# Altium schematic symbol library 分立器件.SchLib: 102 symbols
Pins are listed as number, name and electrical type; pins without a type are passive.

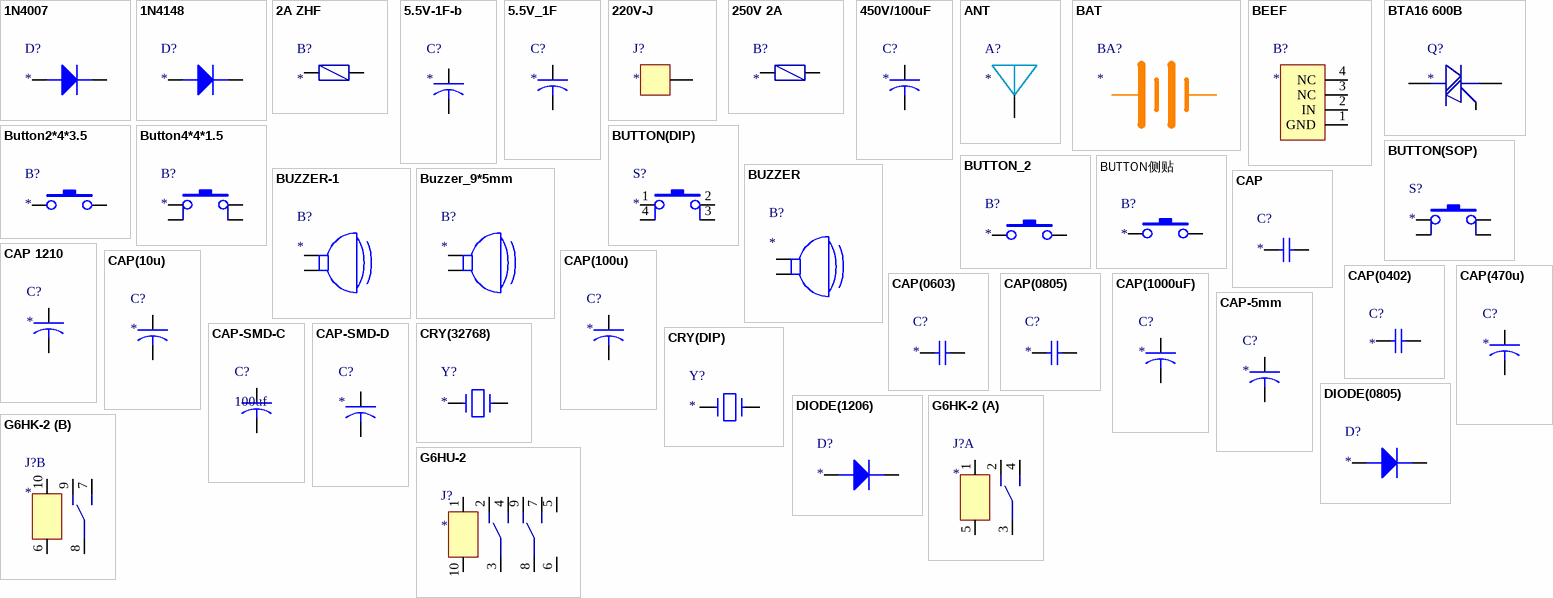
[diagram p0: symbols 1N4007 to G6HU-2]

## 1N4007
designator D?
footprint DIODE(SMA)
pins: 1 A, 2 K

## 1N4148
designator D?
footprint Diode-1206
pins: 1, 2

## 2A ZHF
designator B?
footprint 2A ZHF
pins: 1, 2

## 5.5V-1F-b
designator C?
footprint 5.5V-1F-b
pins: 1, 2

## 5.5V_1F
designator C?
footprint 5.5V_1F
pins: 1, 2

## 220V-J
designator J?
footprint 220V-J
pins: 1

## 250V 2A
designator B?
footprint 250V 2A
pins: 1, 2

## 450V/100uF
designator C?
footprint 450V/100uF
pins: 1, 2

## ANT
designator A?
footprint ANT
pins: 1 ANT

## BAT
designator BA?
footprint BAT
footprint BAT_N
pins: 1, 2 50

## BEEF
designator B?
footprint BEEF
pins: 1 GND, 2 IN, 3 NC, 4 NC

## BTA16 600B
designator Q?
footprint BTA16
pins: 1 A1, 2 A2, 3 G

## Button2*4*3.5
designator B?
footprint Button2*4*3.5
pins: 1, 2

## Button4*4*1.5
designator B?
footprint 4*4*1.5Button
pins: 1, 2, 3, 4

## BUTTON(DIP)
designator S?
pins: 1, 2, 3, 4

## BUTTON(SOP)
designator S?
footprint BUTTOP(SOP)
pins: 1, 2, 3, 4

## BUTTON_2
designator B?
footprint BUTTON_2
pins: 1, 2

## BUTTON侧贴
designator B?
footprint Model Name (Footprint not found)
footprint BUTTON侧贴
pins: 1, 2

## BUZZER
designator B?
footprint BUZZER
pins: 1, 2

## BUZZER-1
designator B?
footprint BUZZER-1
pins: 1, 2

## Buzzer_9*5mm
designator B?
footprint Buzzer_9*5mm
pins: 1, 2

## CAP
designator C?
pins: 1, 2

## CAP 1210
designator C?
footprint CAP 1210
pins: 1, 2

## CAP(10u)
designator C?
footprint CAP(10u)
pins: 1, 2

## CAP(100u)
designator C?
footprint CAP(100u)
pins: 1, 2

## CAP(0402)
designator C?
footprint C(0402)
pins: 1, 2

## CAP(470u)
designator C?
footprint CAP(470u)
pins: 1, 2

## CAP(0603)
designator C?
footprint CAP(0603)
pins: 1, 2

## CAP(0805)
designator C?
footprint 0805
pins: 1, 2

## CAP(1000uF)
designator C?
footprint CAP-1000uF
pins: 1, 2

## CAP-5mm
designator C?
footprint C5mm-H
pins: 1, 2

## CAP-SMD-C
designator C?, comment 100uf
footprint CAP-SMD-C
pins: 1, 2

## CAP-SMD-D
designator C?
footprint CAP-SMD-D
pins: 1, 2

## CRY(32768)
designator Y?
footprint CRY(32768)
pins: 1, 2

## CRY(DIP)
designator Y?
footprint CRY(DIP)
pins: 1, 2

## DIODE(0805)
designator D?
footprint DIODE(0805)
pins: 1 A, 2 K

## DIODE(1206)
designator D?
footprint DOIDE(1206)
pins: 1 A, 2 K

## G6HK-2
designator J?
footprint G6HK-2
part A pins: 1, 2, 3, 4, 5
part B pins: 6, 7, 8, 9, 10

## G6HU-2
designator J?
footprint G6HU-2
pins: 1, 2, 3, 4, 5, 6, 7, 8, 9, 10

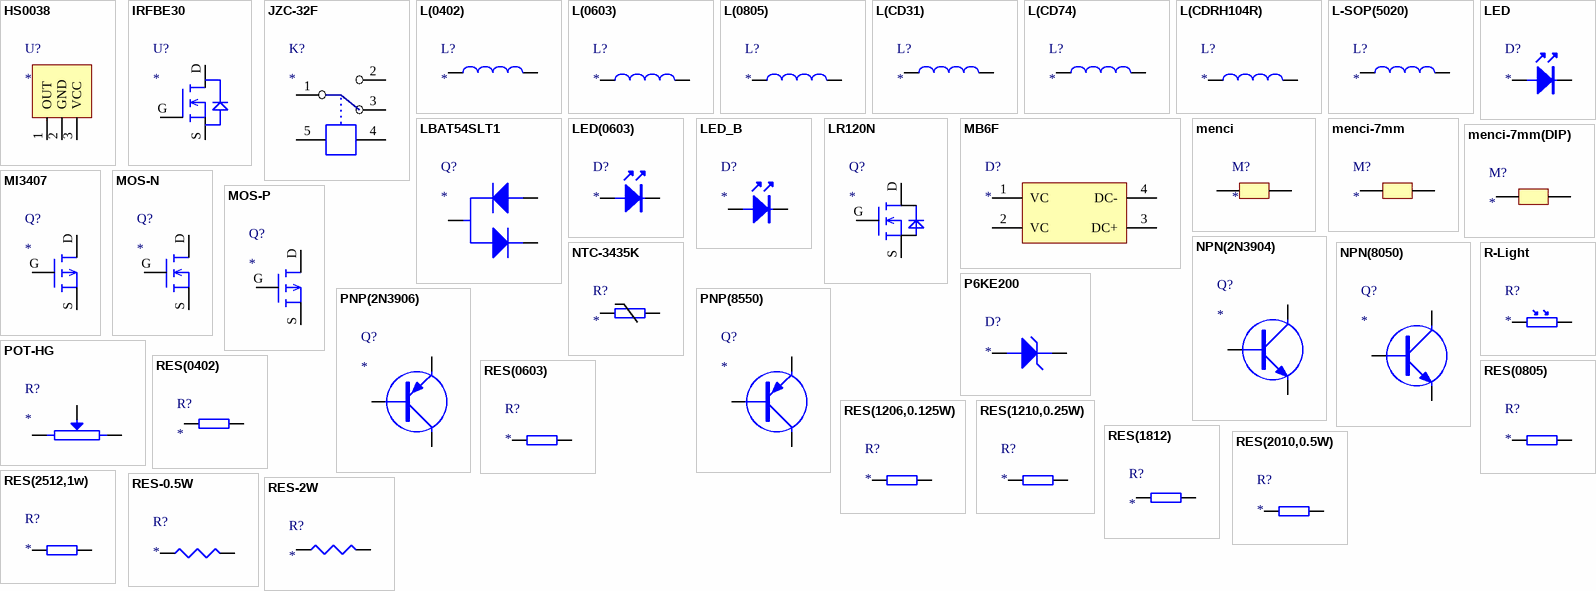
[diagram p1: symbols HS0038 to RES-2W]

## HS0038
designator U?
footprint HS0038
pins: 1 OUT, 2 GND, 3 VCC

## IRFBE30
designator U?
footprint N-MOS
pins: D, G, S

## JZC-32F
designator K?
footprint JZC-32F
pins: 1, 2, 3, 4, 5

## L(0402)
designator L?
footprint L(0402)
pins: 1, 2

## L(0603)
designator L?
footprint L(0603)
pins: 1, 2

## L(0805)
designator L?
footprint L(0805)
pins: 1, 2

## L(CD31)
designator L?
footprint CD31
pins: 1, 2

## L(CD74)
designator L?
footprint L(CD74)
pins: 1, 2

## L(CDRH104R)
designator L?
footprint CDRH104R
pins: 1, 2

## L-SOP(5020)
designator L?
footprint SOP_5020
pins: 1, 2

## LBAT54SLT1
designator Q?
footprint LBAT54SLT1
pins: 1, 2, 3

## LED
designator D?
footprint 0805-LED
pins: 1, 2

## LED(0603)
designator D?
footprint 0603-D
pins: 1, 2

## LED_B
designator D?
footprint LED_0805_B
pins: 1, 2

## LR120N
designator Q?
footprint TO-252-3
pins: D, G, S

## MB6F
designator D?
footprint MB6F
pins: 1 VC, 2 VC, 3 DC+, 4 DC-

## menci
designator M?
footprint menci
pins: 1, 2

## menci-7mm
designator M?
footprint menci-7mm
pins: 1, 2

## menci-7mm(DIP)
designator M?
footprint menci-7mm(DIP)
pins: 1, 2

## MI3407
designator Q?
footprint MOS
pins: D, G, S

## MOS-N
designator Q?
footprint MOS
pins: D, G, S

## MOS-P
designator Q?
footprint MOS
pins: D, G, S

## NPN(2N3904)
designator Q?
footprint STO-23
pins: 1, 2, 3

## NPN(8050)
designator Q?
footprint STO-23
pins: 1, 2, 3

## NTC-3435K
designator R?
footprint NTC-3435K
pins: 1, 2

## P6KE200
designator D?
footprint DO-15-V
pins: 1 A, 2 K

## PNP(2N3906)
designator Q?
footprint STO-23
pins: 1, 2, 3

## PNP(8550)
designator Q?
footprint STO-23
pins: 1, 2, 3

## POT-HG
designator R?
footprint 3296W
pins: 1, 2, 3

## R-Light
designator R?
footprint R-Light
pins: 1, 2

## RES(0402)
designator R?
footprint R(0402)
pins: 1, 2

## RES(0603)
designator R?
footprint 0603
pins: 1, 2

## RES(0805)
designator R?
footprint 0805
pins: 1, 2

## RES(1206,0.125W)
designator R?
footprint 1206(0.125W)
pins: 1, 2

## RES(1210,0.25W)
designator R?
footprint 1210(0.25W)
pins: 1, 2

## RES(1812)
designator R?
footprint RES(1812)
pins: 1, 2

## RES(2010,0.5W)
designator R?
footprint 2010(0.5W)
pins: 1, 2

## RES(2512,1w)
designator R?
footprint 2512(1W)
pins: 1, 2

## RES-0.5W
designator R?
footprint RES-0.5W
pins: 1, 2

## RES-2W
designator R?
footprint RES-2W
pins: 1, 2

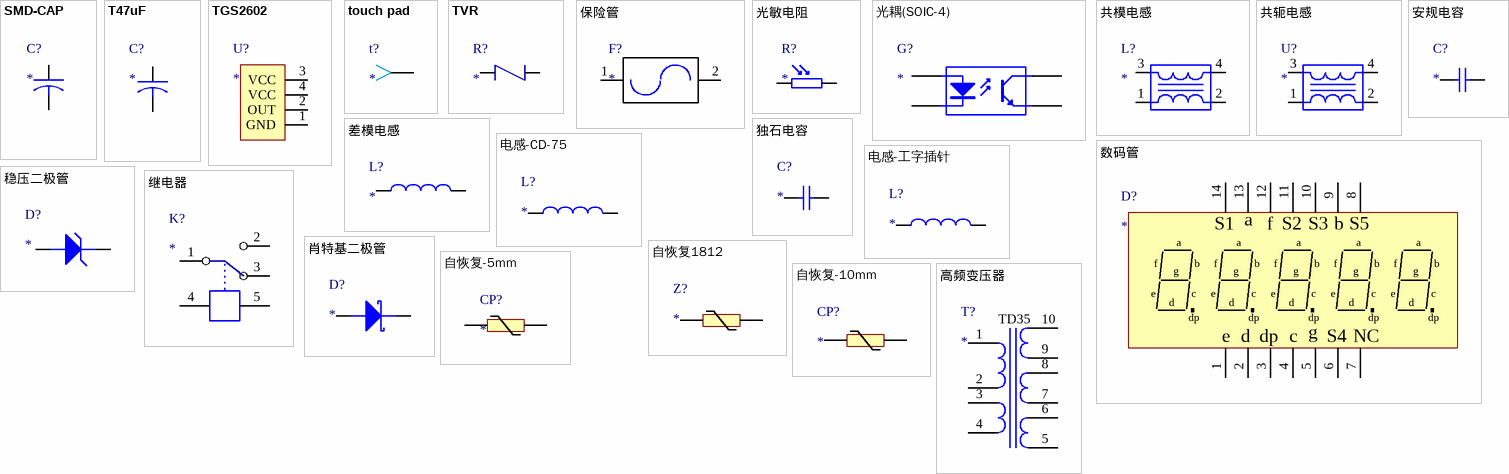
[diagram p2: symbols SMD-CAP to 高频变压器]

## SMD-CAP
designator C?
footprint SMD-3.5mm
footprint SMD-4.5mm
footprint SMD-5.5mm
footprint SMD-6.5mm
footprint SMD-8.5mm
footprint SMD-10.5mm
footprint SMD-12.5mm
footprint SMD-17.5mm
pins: 1, 2

## T47uF
designator C?
footprint T47uF
pins: 1, 2

## TGS2602
designator U?
pins: 1 GND, 2 OUT, 3 VCC, 4 VCC

## touch pad
designator t?
footprint touch pad
pins: 1

## TVR
designator R?
footprint TVR
pins: 1, 2

## 保险管
designator F?
footprint 保险管
pins: 1, 2

## 光敏电阻
designator R?
footprint R-Light
pins: 1, 2

## 光耦(SOIC-4)
designator G?
footprint SOIC-4P
pins: 1 A, 2 K, 3 E, 4 C

## 共模电感
designator L?
footprint 共模电感
footprint SOP共模电感
pins: 1 (oe), 2 (oe), 3 (oe), 4 (oe)

## 共轭电感
designator U?
footprint 共轭电感
pins: 1 (oe), 2 (oe), 3 (oe), 4 (oe)

## 安规电容
designator C?
footprint 安规电容
pins: 1, 2

## 差模电感
designator L?
footprint 差模电感
pins: 1, 2

## 数码管
designator D?
footprint 数码管
pins: 1 e, 2 d, 3 dp, 4 c, 5 g, 6 s4, 7 NC, 8 s5, 9 b, 10 s3, 11 s2, 12 f, 13 a, 14 s1
text: S1; S2; S3; S5; S4

## 独石电容
designator C?
footprint CBB-5mm
pins: 1, 2

## 电感-CD-75
designator L?
footprint CD-75
pins: 1, 2

## 电感-工字插针
designator L?
footprint L8*H
pins: 1, 2

## 稳压二极管
designator D?
footprint DIODE(SMA)
pins: 1 A, 2 K

## 继电器
designator K?
footprint 继电器
pins: 1, 2, 3, 4, 5

## 肖特基二极管
designator D?
footprint DIODE(SMA)
pins: 1 A, 2 K

## 自恢复1812
designator Z?
footprint RES(1812)
pins: 1, 2

## 自恢复-5mm
designator CP?
footprint PTC-5mm
pins: 1, 2

## 自恢复-10mm
designator CP?
footprint PTC-10mm
pins: 1, 2

## 高频变压器
designator T?
footprint 高频变压器
pins: 1, 2, 3, 4, 5, 6, 7, 8, 9, 10
text: TD35